# Altium integrated library TI_Logic_Flip-Flop,Latch,Register.IntLib: 2598 symbols (part 95 of 122)
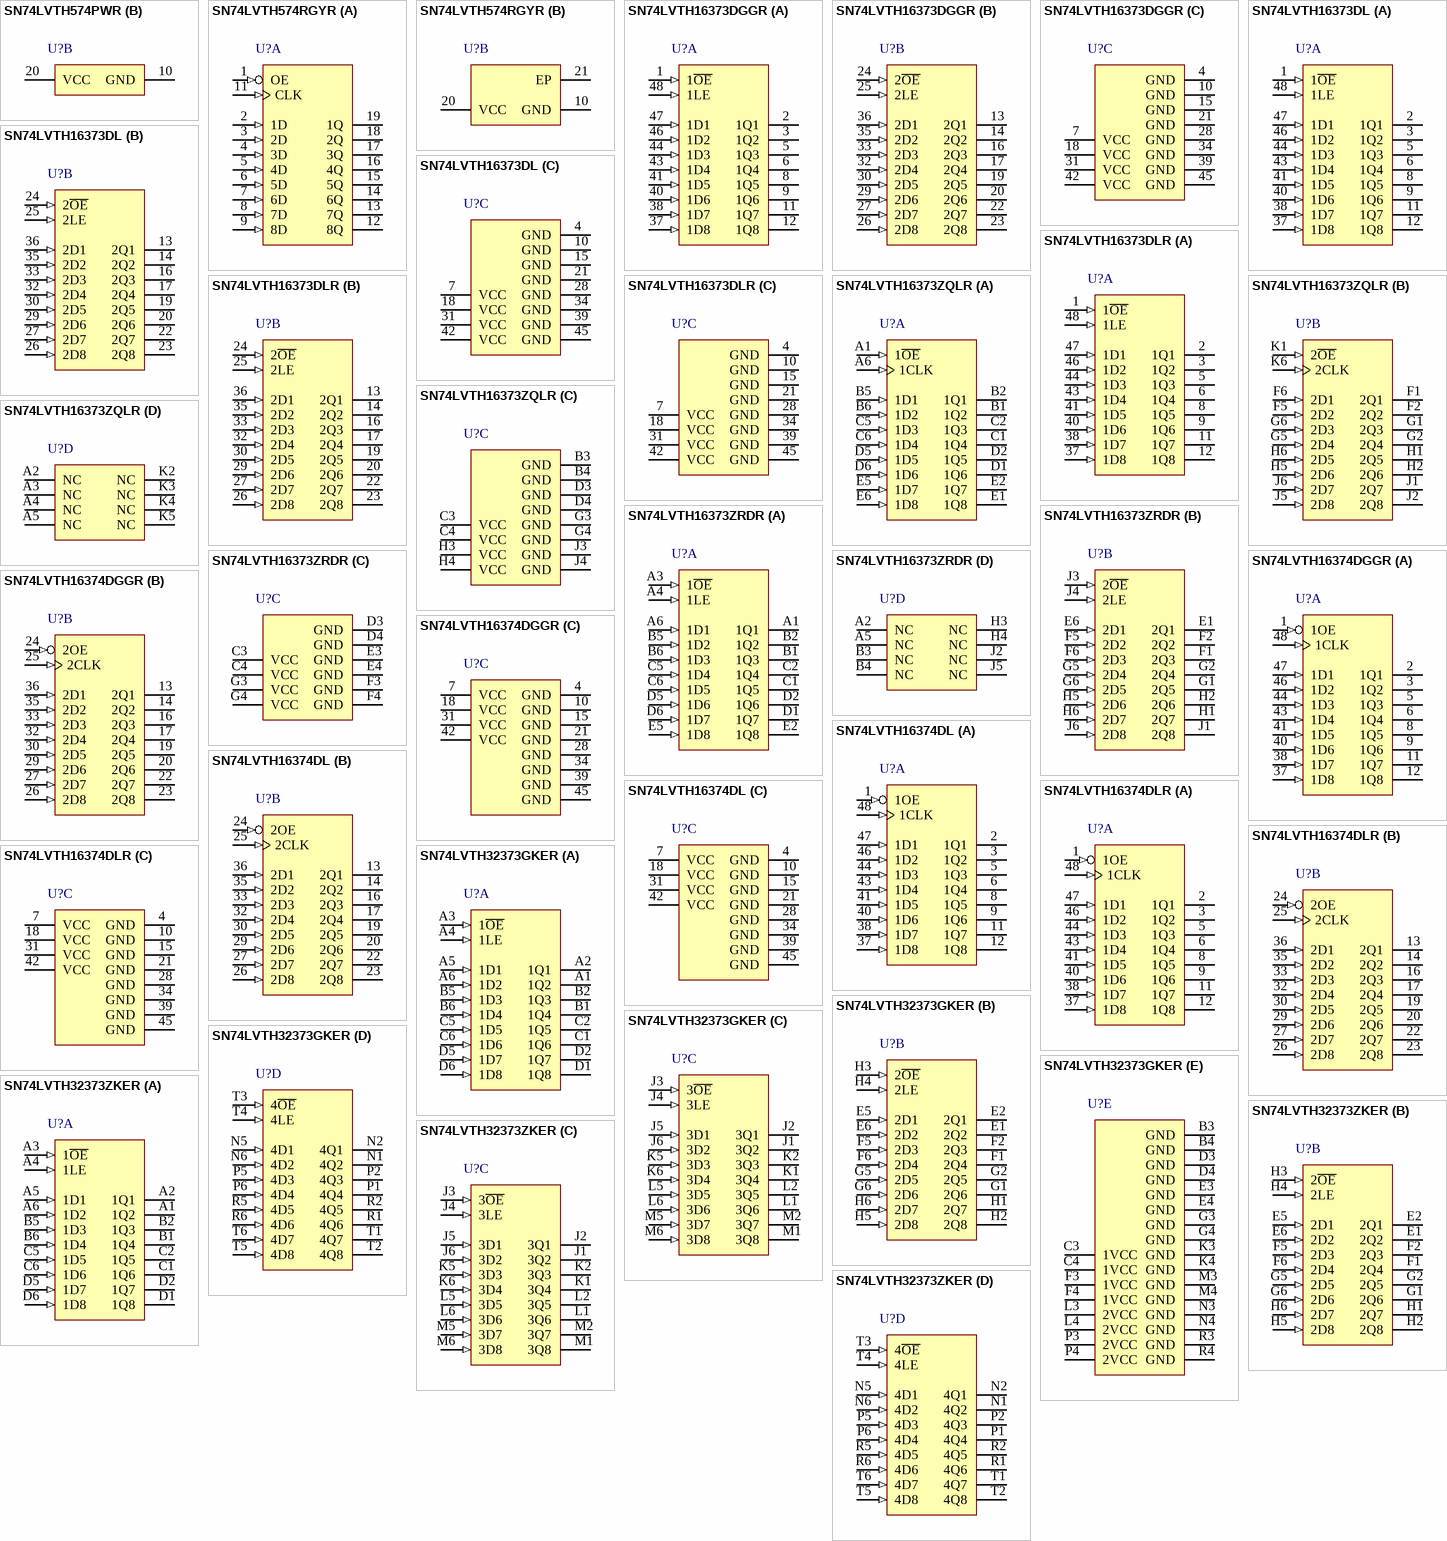
[diagram p233: symbols SN74LVTH574PWR to SN74LVTH32373ZKER]

## SN74LVTH32373GKER
designator U?
3.3-V ABT 32-Bit Transparent D-Type Latch With 3-State Outputs, GKE0096A, LARGE T&R; Generic Part Number: SN74LVTH32373; Manufacturer: Texas Instruments; PartNumber: SN74LVTH32373GKER; VCC(Min)(V): 2.7; VCC(Max)(V): 3.6; Output Type: TTL; Logic: True; Static Current: 10 mA; ICC @ Nom Voltage(Max)(mA): 10; Bits(#): 32; F @ Nom Voltage(Max)(Mhz): 160; Rating: Catalog; Technology Family: LVT; Voltage(Nom)(V): 3.3; Schmitt Trigger: No; Output Drive (IOL/IOH)(Max)(mA): 64/-32; Output Logic: Non-inverted; 3-State Output: Yes; tpd @ Nom Voltage(Max)(ns): 3.8; DatasheetVersion: SCBS751B; PackageReference: GKE0096A; Supplier 1: Digi-Key; Supplier Part Number 1: 296-8717-2-ND; Supplier 2: Digi-Key; Supplier Part Number 2: 296-8717-1-ND; Supplier 3: Newark; Supplier Part Number 3: 76C4491; Supplier 4: Mouser; Supplier Part Number 4: 595-SNLVTH32373GKER; Input Type: TTL; Operating Temperature Range(C): -40 to 85; Code_JEDEC: MO-205; ComponentLink1Description: Manufacturer URL; ComponentLink1URL: http://www.ti.com/; ComponentLink2Description: Datasheet; ComponentLink2URL: http://www.ti.com/lit/ds/symlink/sn74lvth32373.pdf; ComponentLink3Description: Package Specification; ComponentLink3URL: http://www.ti.com/lit/ml/mpbg095d/mpbg095d.pdf
footprint GKE0096A (BGA, 96-Balls, Body 13.5x5.5mm, Pitch 0.8mm)
part A pins: A1 1Q2 (hiz), A2 1Q1 (hiz), A3 1~{OE} (in), A4 1LE (in), A5 1D1 (in), A6 1D2 (in), B1 1Q4 (hiz), B2 1Q3 (hiz), B5 1D3 (in), B6 1D4 (in), C1 1Q6 (hiz), C2 1Q5 (hiz), C5 1D5 (in), C6 1D6 (in), D1 1Q8 (hiz), D2 1Q7 (hiz), D5 1D7 (in), D6 1D8 (in)
part B pins: E1 2Q2 (hiz), E2 2Q1 (hiz), E5 2D1 (in), E6 2D2 (in), F1 2Q4 (hiz), F2 2Q3 (hiz), F5 2D3 (in), F6 2D4 (in), G1 2Q6 (hiz), G2 2Q5 (hiz), G5 2D5 (in), G6 2D6 (in), H1 2Q7 (hiz), H2 2Q8 (hiz), H3 2~{OE} (in), H4 2LE (in), H5 2D8 (in), H6 2D7 (in)
part C pins: J1 3Q2 (hiz), J2 3Q1 (hiz), J3 3~{OE} (in), J4 3LE (in), J5 3D1 (in), J6 3D2 (in), K1 3Q4 (hiz), K2 3Q3 (hiz), K5 3D3 (in), K6 3D4 (in), L1 3Q6 (hiz), L2 3Q5 (hiz), L5 3D5 (in), L6 3D6 (in), M1 3Q8 (hiz), M2 3Q7 (hiz), M5 3D7 (in), M6 3D8 (in)
part D pins: N1 4Q2 (hiz), N2 4Q1 (hiz), N5 4D1 (in), N6 4D2 (in), P1 4Q4 (hiz), P2 4Q3 (hiz), P5 4D3 (in), P6 4D4 (in), R1 4Q6 (hiz), R2 4Q5 (hiz), R5 4D5 (in), R6 4D6 (in), T1 4Q7 (hiz), T2 4Q8 (hiz), T3 4~{OE} (in), T4 4LE (in), T5 4D8 (in), T6 4D7 (in)
part E pins: B3 GND (power), B4 GND (power), C3 1VCC (power), C4 1VCC (power), D3 GND (power), D4 GND (power), E3 GND (power), E4 GND (power), F3 1VCC (power), F4 1VCC (power), G3 GND (power), G4 GND (power), K3 GND (power), K4 GND (power), L3 2VCC (power), L4 2VCC (power), M3 GND (power), M4 GND (power), N3 GND (power), N4 GND (power), P3 2VCC (power), P4 2VCC (power), R3 GND (power), R4 GND (power)

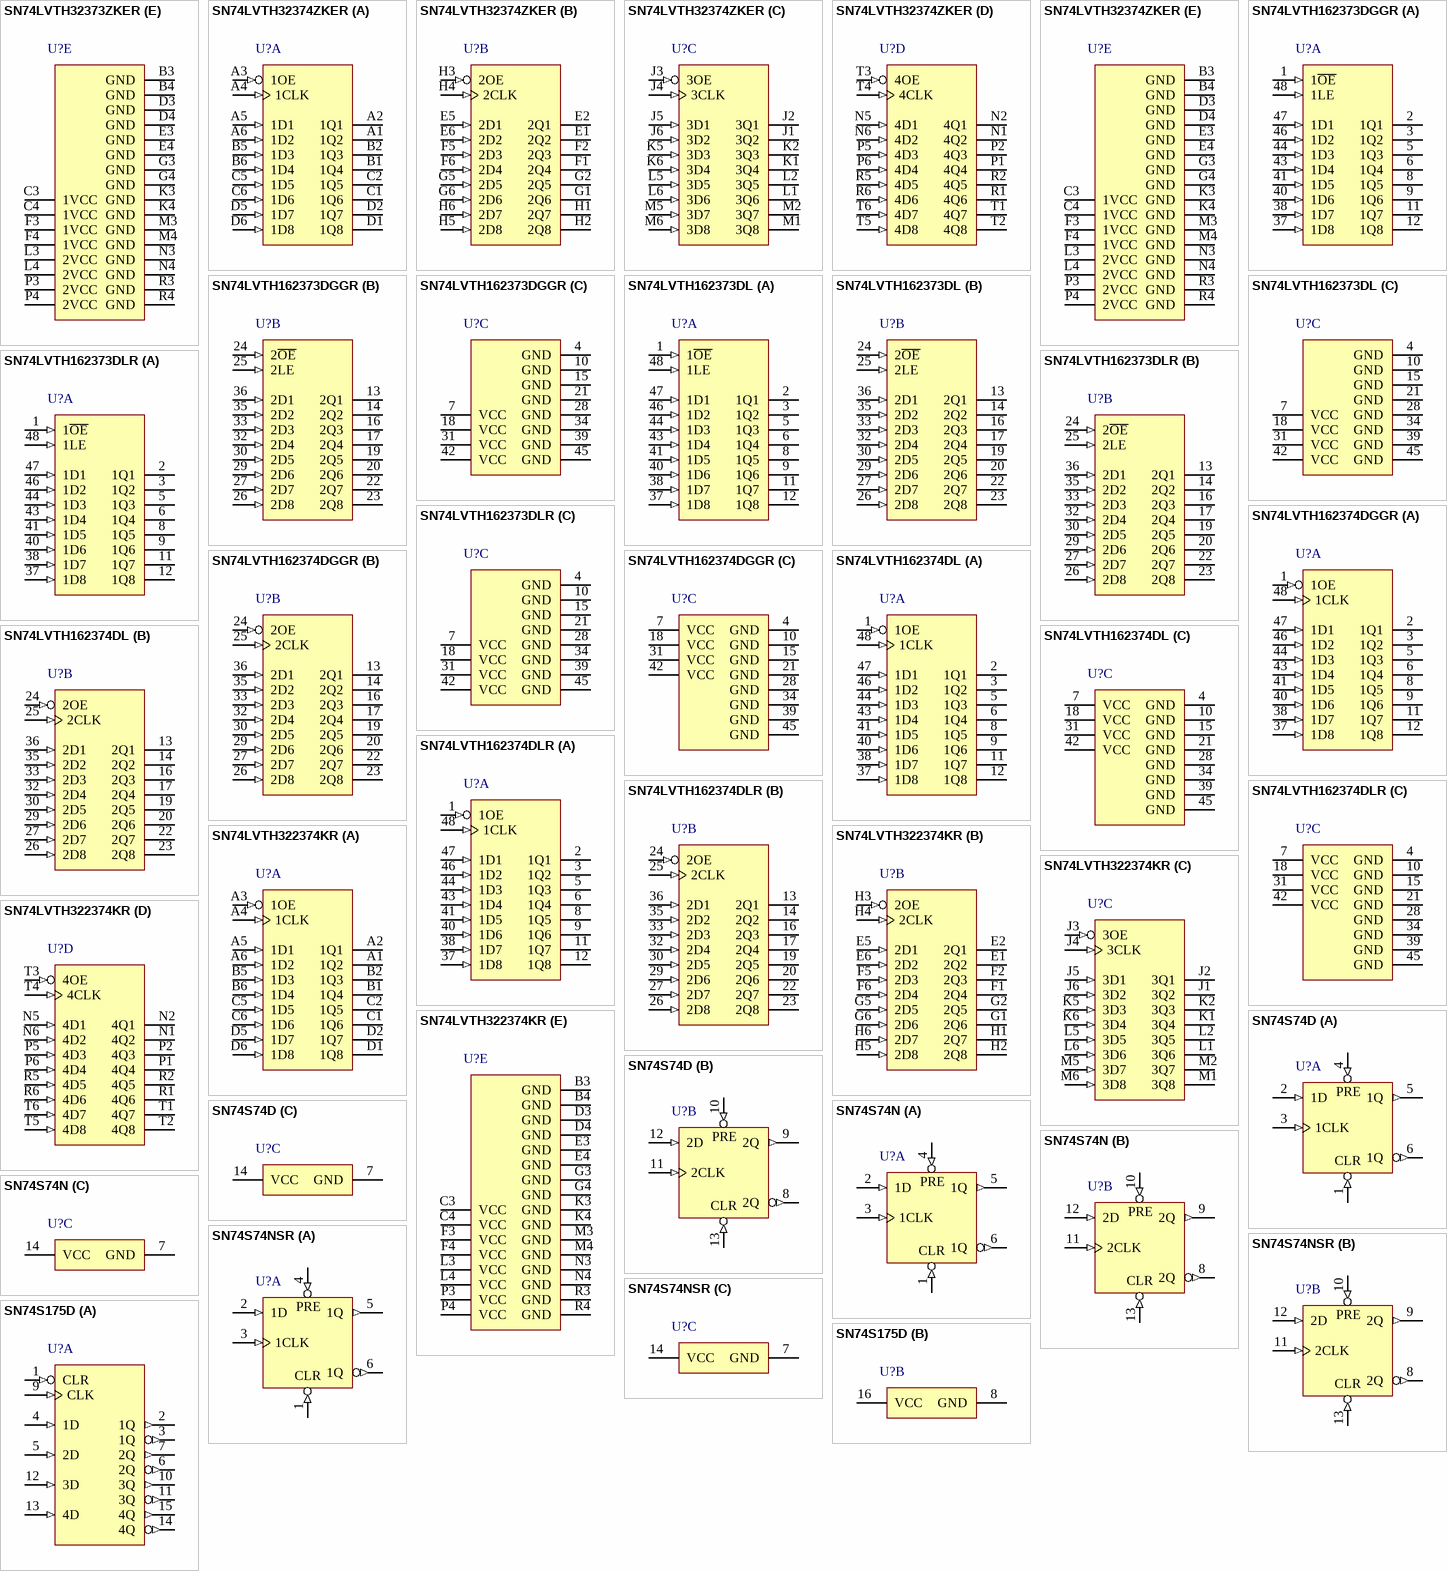
[diagram p113: symbols SN74LVTH32373ZKER to SN74S175D]

## SN74LVTH32373ZKER
designator U?
3.3-V ABT 32-Bit Transparent D-Type Latch With 3-State Outputs, ZKE0096A, LARGE T&R; Generic Part Number: SN74LVTH32373; Manufacturer: Texas Instruments; PartNumber: SN74LVTH32373ZKER; VCC(Min)(V): 2.7; VCC(Max)(V): 3.6; Output Type: TTL; Logic: True; Static Current: 10 mA; ICC @ Nom Voltage(Max)(mA): 10; Bits(#): 32; F @ Nom Voltage(Max)(Mhz): 160; Rating: Catalog; Technology Family: LVT; Voltage(Nom)(V): 3.3; Schmitt Trigger: No; Output Drive (IOL/IOH)(Max)(mA): 64/-32; Output Logic: Non-inverted; 3-State Output: Yes; tpd @ Nom Voltage(Max)(ns): 3.8; DatasheetVersion: SCBS751B; PackageReference: ZKE0096A; Supplier 1: Digi-Key; Supplier Part Number 1: 296-25442-2-ND; Supplier 2: Digi-Key; Supplier Part Number 2: 296-25442-1-ND; Supplier 3: Digi-Key; Supplier Part Number 3: 296-25442-6-ND; Supplier 4: Newark; Supplier Part Number 4: 87H2705; Supplier 5: Mouser; Supplier Part Number 5: 595-74LVTH32373ZKER; Input Type: TTL; Operating Temperature Range(C): -40 to 85; Code_JEDEC: MO-205; ComponentLink1Description: Manufacturer URL; ComponentLink1URL: http://www.ti.com/; ComponentLink2Description: Datasheet; ComponentLink2URL: http://www.ti.com/lit/ds/symlink/sn74lvth32373.pdf; ComponentLink3Description: Package Specification; ComponentLink3URL: http://www.ti.com/lit/ml/mpbg298b/mpbg298b.pdf
footprint ZKE0096A (BGA, 96-Balls, Body 13.5x5.5mm, Pitch 0.8mm)
part A pins: A1 1Q2 (hiz), A2 1Q1 (hiz), A3 1~{OE} (in), A4 1LE (in), A5 1D1 (in), A6 1D2 (in), B1 1Q4 (hiz), B2 1Q3 (hiz), B5 1D3 (in), B6 1D4 (in), C1 1Q6 (hiz), C2 1Q5 (hiz), C5 1D5 (in), C6 1D6 (in), D1 1Q8 (hiz), D2 1Q7 (hiz), D5 1D7 (in), D6 1D8 (in)
part B pins: E1 2Q2 (hiz), E2 2Q1 (hiz), E5 2D1 (in), E6 2D2 (in), F1 2Q4 (hiz), F2 2Q3 (hiz), F5 2D3 (in), F6 2D4 (in), G1 2Q6 (hiz), G2 2Q5 (hiz), G5 2D5 (in), G6 2D6 (in), H1 2Q7 (hiz), H2 2Q8 (hiz), H3 2~{OE} (in), H4 2LE (in), H5 2D8 (in), H6 2D7 (in)
part C pins: J1 3Q2 (hiz), J2 3Q1 (hiz), J3 3~{OE} (in), J4 3LE (in), J5 3D1 (in), J6 3D2 (in), K1 3Q4 (hiz), K2 3Q3 (hiz), K5 3D3 (in), K6 3D4 (in), L1 3Q6 (hiz), L2 3Q5 (hiz), L5 3D5 (in), L6 3D6 (in), M1 3Q8 (hiz), M2 3Q7 (hiz), M5 3D7 (in), M6 3D8 (in)
part D pins: N1 4Q2 (hiz), N2 4Q1 (hiz), N5 4D1 (in), N6 4D2 (in), P1 4Q4 (hiz), P2 4Q3 (hiz), P5 4D3 (in), P6 4D4 (in), R1 4Q6 (hiz), R2 4Q5 (hiz), R5 4D5 (in), R6 4D6 (in), T1 4Q7 (hiz), T2 4Q8 (hiz), T3 4~{OE} (in), T4 4LE (in), T5 4D8 (in), T6 4D7 (in)
part E pins: B3 GND (power), B4 GND (power), C3 1VCC (power), C4 1VCC (power), D3 GND (power), D4 GND (power), E3 GND (power), E4 GND (power), F3 1VCC (power), F4 1VCC (power), G3 GND (power), G4 GND (power), K3 GND (power), K4 GND (power), L3 2VCC (power), L4 2VCC (power), M3 GND (power), M4 GND (power), N3 GND (power), N4 GND (power), P3 2VCC (power), P4 2VCC (power), R3 GND (power), R4 GND (power)

## SN74LVTH32374ZKER
designator U?
3.3-V ABT 32-Bit Edge-Triggered D-Type Flip-Flop With 3-State Outputs, ZKE0096A, LARGE T&R; Generic Part Number: SN74LVTH32374; Manufacturer: Texas Instruments; PartNumber: SN74LVTH32374ZKER; VCC(Min)(V): 2.7; VCC(Max)(V): 3.6; Output Type: TTL; ICC @ Nom Voltage(Max)(mA): 10; Bits(#): 32; F @ Nom Voltage(Max)(Mhz): 160; Rating: Catalog; Technology Family: LVT; Voltage(Nom)(V): 3.3; Schmitt Trigger: No; Output Drive (IOL/IOH)(Max)(mA): 64/-32; Output Logic: Non-inverted; 3-State Output: Yes; tpd @ Nom Voltage(Max)(ns): 4.5; DatasheetVersion: SCBS752D; PackageReference: ZKE0096A; Supplier 1: Digi-Key; Supplier Part Number 1: 296-23292-2-ND; Supplier 2: Digi-Key; Supplier Part Number 2: 296-23292-1-ND; Supplier 3: Digi-Key; Supplier Part Number 3: 296-23292-6-ND; Supplier 4: Mouser; Supplier Part Number 4: 595-SN74LVTH32374ZKE; Input Type: TTL; Operating Temperature Range(C): -40 to 85; Code_JEDEC: MO-205; ComponentLink1Description: Manufacturer URL; ComponentLink1URL: http://www.ti.com/; ComponentLink2Description: Datasheet; ComponentLink2URL: http://www.ti.com/lit/ds/symlink/sn74lvth32374.pdf; ComponentLink3Description: Package Specification; ComponentLink3URL: http://www.ti.com/lit/ml/mpbg298b/mpbg298b.pdf
footprint ZKE0096A (BGA, 96-Balls, Body 13.5x5.5mm, Pitch 0.8mm)
part A pins: A1 1Q2 (hiz), A2 1Q1 (hiz), A3 1OE (in), A4 1CLK (in), A5 1D1 (in), A6 1D2 (in), B1 1Q4 (hiz), B2 1Q3 (hiz), B5 1D3 (in), B6 1D4 (in), C1 1Q6 (hiz), C2 1Q5 (hiz), C5 1D5 (in), C6 1D6 (in), D1 1Q8 (hiz), D2 1Q7 (hiz), D5 1D7 (in), D6 1D8 (in)
part B pins: E1 2Q2 (hiz), E2 2Q1 (hiz), E5 2D1 (in), E6 2D2 (in), F1 2Q4 (hiz), F2 2Q3 (hiz), F5 2D3 (in), F6 2D4 (in), G1 2Q6 (hiz), G2 2Q5 (hiz), G5 2D5 (in), G6 2D6 (in), H1 2Q7 (hiz), H2 2Q8 (hiz), H3 2OE (in), H4 2CLK (in), H5 2D8 (in), H6 2D7 (in)
part C pins: J1 3Q2 (hiz), J2 3Q1 (hiz), J3 3OE (in), J4 3CLK (in), J5 3D1 (in), J6 3D2 (in), K1 3Q4 (hiz), K2 3Q3 (hiz), K5 3D3 (in), K6 3D4 (in), L1 3Q6 (hiz), L2 3Q5 (hiz), L5 3D5 (in), L6 3D6 (in), M1 3Q8 (hiz), M2 3Q7 (hiz), M5 3D7 (in), M6 3D8 (in)
part D pins: N1 4Q2 (hiz), N2 4Q1 (hiz), N5 4D1 (in), N6 4D2 (in), P1 4Q4 (hiz), P2 4Q3 (hiz), P5 4D3 (in), P6 4D4 (in), R1 4Q6 (hiz), R2 4Q5 (hiz), R5 4D5 (in), R6 4D6 (in), T1 4Q7 (hiz), T2 4Q8 (hiz), T3 4OE (in), T4 4CLK (in), T5 4D8 (in), T6 4D7 (in)
part E pins: B3 GND (power), B4 GND (power), C3 1VCC (power), C4 1VCC (power), D3 GND (power), D4 GND (power), E3 GND (power), E4 GND (power), F3 1VCC (power), F4 1VCC (power), G3 GND (power), G4 GND (power), K3 GND (power), K4 GND (power), L3 2VCC (power), L4 2VCC (power), M3 GND (power), M4 GND (power), N3 GND (power), N4 GND (power), P3 2VCC (power), P4 2VCC (power), R3 GND (power), R4 GND (power)

## SN74LVTH162373DGGR
designator U?
3.3-V ABT 16-Bit Transparent D-Type Latches With 3-State Outputs, DGG0048A, LARGE T&R; Generic Part Number: SN74LVTH162373; Manufacturer: Texas Instruments; PartNumber: SN74LVTH162373DGGR; VCC(Min)(V): 2.7; VCC(Max)(V): 3.6; Output Type: TTL; ICC @ Nom Voltage(Max)(mA): 5; Bits(#): 16; F @ Nom Voltage(Max)(Mhz): 160; Rating: Catalog; Technology Family: LVT; Voltage(Nom)(V): 3.3; Schmitt Trigger: No; Output Drive (IOL/IOH)(Max)(mA): 12/-12; Output Logic: Non-inverted; 3-State Output: Yes; tpd @ Nom Voltage(Max)(ns): 4.6; DatasheetVersion: SCBS261M; PackageReference: DGG0048A; Supplier 1: Digi-Key; Supplier Part Number 1: 296-8671-2-ND; Supplier 2: Digi-Key; Supplier Part Number 2: 296-8671-1-ND; Supplier 3: Digi-Key; Supplier Part Number 3: 296-8671-6-ND; Supplier 4: Farnell; Supplier Part Number 4: 2499892; Supplier 5: Newark; Supplier Part Number 5: 68Y8046; Supplier 6: Newark; Supplier Part Number 6: 76C4395; Supplier 7: Mouser; Supplier Part Number 7: 595-SNLVTH162373DGGR; Input Type: TTL; Operating Temperature Range(C): -40 to 85; Code_JEDEC: MO-153; ComponentLink1Description: Manufacturer URL; ComponentLink1URL: http://www.ti.com/; ComponentLink2Description: Datasheet; ComponentLink2URL: http://www.ti.com/lit/ds/symlink/sn74lvth162373.pdf; ComponentLink3Description: Package Specification; ComponentLink3URL: http://www.ti.com/lit/ml/mtss003d/mtss003d.pdf
footprint DGG0048A_N (TSSOP, 48-Leads, Body 12.6x6.2mm, Pitch 0.5mm, IPC Medium Density)
footprint DGG0048A_M (TSSOP, 48-Leads, Body 12.6x6.2mm, Pitch 0.5mm, IPC Low Density)
footprint DGG0048A_L (TSSOP, 48-Leads, Body 12.6x6.2mm, Pitch 0.5mm, IPC High Density)
part A pins: 1 1~{OE} (in) "Output Enable 1", 2 1Q1 (hiz) "1Q1 Output", 3 1Q2 (hiz) "1Q2 Output", 5 1Q3 (hiz) "1Q3 Output", 6 1Q4 (hiz) "1Q4 Output", 8 1Q5 (hiz) "1Q5 Output", 9 1Q6 (hiz) "1Q6 Output", 11 1Q7 (hiz) "1Q7 Output", 12 1Q8 (hiz) "1Q8 Output", 37 1D8 (in) "1D8 Input", 38 1D7 (in) "1D7 Input", 40 1D6 (in) "1D6 Input", 41 1D5 (in) "1D5 Input", 43 1D4 (in) "1D4 Input", 44 1D3 (in) "1D3 Input", 46 1D2 (in) "1D2 Input", 47 1D1 (in) "1D1 Input", 48 1LE (in) "Latch Enable 1"
part B pins: 13 2Q1 (hiz) "2Q1 Output", 14 2Q2 (hiz) "2Q2 Output", 16 2Q3 (hiz) "2Q3 Output", 17 2Q4 (hiz) "2Q4 Output", 19 2Q5 (hiz) "Output", 20 2Q6 (hiz) "2Q6 Output", 22 2Q7 (hiz) "2Q7 Output", 23 2Q8 (hiz) "2Q8 Output", 24 2~{OE} (in) "Output Enable 2", 25 2LE (in) "2LE Input", 26 2D8 (in) "2D8 Input", 27 2D7 (in) "2D7 Input", 29 2D6 (in) "2D6 Input", 30 2D5 (in) "2D5 Input", 32 2D4 (in) "2D4 Input", 33 2D3 (in) "2D3 Input", 35 2D2 (in) "2D2 Input", 36 2D1 (in) "2D1 Input"
part C pins: 4 GND (power) "Ground Pin", 7 VCC (power) "Power Pin", 10 GND (power) "Ground Pin", 15 GND (power) "Ground Pin", 18 VCC (power) "Power Pin", 21 GND (power) "Ground Pin", 28 GND (power) "Ground Pin", 31 VCC (power) "Power Pin", 34 GND (power) "Ground Pin", 39 GND (power) "Ground Pin", 42 VCC (power) "Power Pin", 45 GND (power) "Ground Pin"

## SN74LVTH162373DL
designator U?
3.3-V ABT 16-Bit Transparent D-Type Latches With 3-State Outputs, DL0048A, TUBE; Generic Part Number: SN74LVTH162373; Manufacturer: Texas Instruments; PartNumber: SN74LVTH162373DL; VCC(Min)(V): 2.7; VCC(Max)(V): 3.6; Output Type: TTL; ICC @ Nom Voltage(Max)(mA): 5; Bits(#): 16; F @ Nom Voltage(Max)(Mhz): 160; Rating: Catalog; Technology Family: LVT; Voltage(Nom)(V): 3.3; Schmitt Trigger: No; Output Drive (IOL/IOH)(Max)(mA): 12/-12; Output Logic: Non-inverted; 3-State Output: Yes; tpd @ Nom Voltage(Max)(ns): 4.6; DatasheetVersion: SCBS261M; PackageReference: DL0048A; Supplier 1: Digi-Key; Supplier Part Number 1: 296-12918-5-ND; Supplier 2: Newark; Supplier Part Number 2: 76C4396; Supplier 3: Mouser; Supplier Part Number 3: 595-SN74LVTH162373DL; Input Type: TTL; Operating Temperature Range(C): -40 to 85; Code_JEDEC: MO-118; ComponentLink1Description: Manufacturer URL; ComponentLink1URL: http://www.ti.com/; ComponentLink2Description: Datasheet; ComponentLink2URL: http://www.ti.com/lit/ds/symlink/sn74lvth162373.pdf; ComponentLink3Description: Package Specification; ComponentLink3URL: http://www.ti.com/lit/ml/mpds490/mpds490.pdf
footprint DL0048A_N (SOP, 48-Leads, Body 7.6x16mm, Pitch 0.635mm, IPC Medium Density)
footprint DL0048A_M (SOP, 48-Leads, Body 7.6x16mm, Pitch 0.635mm, IPC Low Density)
footprint DL0048A_L (SOP, 48-Leads, Body 7.6x16mm, Pitch 0.635mm, IPC High Density)
part A pins: 1 1~{OE} (in) "Output Enable 1", 2 1Q1 (hiz) "1Q1 Output", 3 1Q2 (hiz) "1Q2 Output", 5 1Q3 (hiz) "1Q3 Output", 6 1Q4 (hiz) "1Q4 Output", 8 1Q5 (hiz) "1Q5 Output", 9 1Q6 (hiz) "1Q6 Output", 11 1Q7 (hiz) "1Q7 Output", 12 1Q8 (hiz) "1Q8 Output", 37 1D8 (in) "1D8 Input", 38 1D7 (in) "1D7 Input", 40 1D6 (in) "1D6 Input", 41 1D5 (in) "1D5 Input", 43 1D4 (in) "1D4 Input", 44 1D3 (in) "1D3 Input", 46 1D2 (in) "1D2 Input", 47 1D1 (in) "1D1 Input", 48 1LE (in) "Latch Enable 1"
part B pins: 13 2Q1 (hiz) "2Q1 Output", 14 2Q2 (hiz) "2Q2 Output", 16 2Q3 (hiz) "2Q3 Output", 17 2Q4 (hiz) "2Q4 Output", 19 2Q5 (hiz) "Output", 20 2Q6 (hiz) "2Q6 Output", 22 2Q7 (hiz) "2Q7 Output", 23 2Q8 (hiz) "2Q8 Output", 24 2~{OE} (in) "Output Enable 2", 25 2LE (in) "2LE Input", 26 2D8 (in) "2D8 Input", 27 2D7 (in) "2D7 Input", 29 2D6 (in) "2D6 Input", 30 2D5 (in) "2D5 Input", 32 2D4 (in) "2D4 Input", 33 2D3 (in) "2D3 Input", 35 2D2 (in) "2D2 Input", 36 2D1 (in) "2D1 Input"
part C pins: 4 GND (power) "Ground Pin", 7 VCC (power) "Power Pin", 10 GND (power) "Ground Pin", 15 GND (power) "Ground Pin", 18 VCC (power) "Power Pin", 21 GND (power) "Ground Pin", 28 GND (power) "Ground Pin", 31 VCC (power) "Power Pin", 34 GND (power) "Ground Pin", 39 GND (power) "Ground Pin", 42 VCC (power) "Power Pin", 45 GND (power) "Ground Pin"

## SN74LVTH162373DLR
designator U?
3.3-V ABT 16-Bit Transparent D-Type Latches With 3-State Outputs, DL0048A, LARGE T&R; Generic Part Number: SN74LVTH162373; Manufacturer: Texas Instruments; PartNumber: SN74LVTH162373DLR; VCC(Min)(V): 2.7; VCC(Max)(V): 3.6; Output Type: TTL; ICC @ Nom Voltage(Max)(mA): 5; Bits(#): 16; F @ Nom Voltage(Max)(Mhz): 160; Rating: Catalog; Technology Family: LVT; Voltage(Nom)(V): 3.3; Schmitt Trigger: No; Output Drive (IOL/IOH)(Max)(mA): 12/-12; Output Logic: Non-inverted; 3-State Output: Yes; tpd @ Nom Voltage(Max)(ns): 4.6; DatasheetVersion: SCBS261M; PackageReference: DL0048A; Supplier 1: Digi-Key; Supplier Part Number 1: 296-38809-2-ND; Supplier 2: Digi-Key; Supplier Part Number 2: 296-38809-1-ND; Supplier 3: Digi-Key; Supplier Part Number 3: 296-38809-6-ND; Supplier 4: Mouser; Supplier Part Number 4: 595-74LVTH162373DLR; Input Type: TTL; Operating Temperature Range(C): -40 to 85; Code_JEDEC: MO-118; ComponentLink1Description: Manufacturer URL; ComponentLink1URL: http://www.ti.com/; ComponentLink2Description: Datasheet; ComponentLink2URL: http://www.ti.com/lit/ds/symlink/sn74lvth162373.pdf; ComponentLink3Description: Package Specification; ComponentLink3URL: http://www.ti.com/lit/ml/mpds490/mpds490.pdf
footprint DL0048A_N (SOP, 48-Leads, Body 7.6x16mm, Pitch 0.635mm, IPC Medium Density)
footprint DL0048A_M (SOP, 48-Leads, Body 7.6x16mm, Pitch 0.635mm, IPC Low Density)
footprint DL0048A_L (SOP, 48-Leads, Body 7.6x16mm, Pitch 0.635mm, IPC High Density)
part A pins: 1 1~{OE} (in) "Output Enable 1", 2 1Q1 (hiz) "1Q1 Output", 3 1Q2 (hiz) "1Q2 Output", 5 1Q3 (hiz) "1Q3 Output", 6 1Q4 (hiz) "1Q4 Output", 8 1Q5 (hiz) "1Q5 Output", 9 1Q6 (hiz) "1Q6 Output", 11 1Q7 (hiz) "1Q7 Output", 12 1Q8 (hiz) "1Q8 Output", 37 1D8 (in) "1D8 Input", 38 1D7 (in) "1D7 Input", 40 1D6 (in) "1D6 Input", 41 1D5 (in) "1D5 Input", 43 1D4 (in) "1D4 Input", 44 1D3 (in) "1D3 Input", 46 1D2 (in) "1D2 Input", 47 1D1 (in) "1D1 Input", 48 1LE (in) "Latch Enable 1"
part B pins: 13 2Q1 (hiz) "2Q1 Output", 14 2Q2 (hiz) "2Q2 Output", 16 2Q3 (hiz) "2Q3 Output", 17 2Q4 (hiz) "2Q4 Output", 19 2Q5 (hiz) "Output", 20 2Q6 (hiz) "2Q6 Output", 22 2Q7 (hiz) "2Q7 Output", 23 2Q8 (hiz) "2Q8 Output", 24 2~{OE} (in) "Output Enable 2", 25 2LE (in) "2LE Input", 26 2D8 (in) "2D8 Input", 27 2D7 (in) "2D7 Input", 29 2D6 (in) "2D6 Input", 30 2D5 (in) "2D5 Input", 32 2D4 (in) "2D4 Input", 33 2D3 (in) "2D3 Input", 35 2D2 (in) "2D2 Input", 36 2D1 (in) "2D1 Input"
part C pins: 4 GND (power) "Ground Pin", 7 VCC (power) "Power Pin", 10 GND (power) "Ground Pin", 15 GND (power) "Ground Pin", 18 VCC (power) "Power Pin", 21 GND (power) "Ground Pin", 28 GND (power) "Ground Pin", 31 VCC (power) "Power Pin", 34 GND (power) "Ground Pin", 39 GND (power) "Ground Pin", 42 VCC (power) "Power Pin", 45 GND (power) "Ground Pin"

## SN74LVTH162374DGGR
designator U?
3.3-V ABT 16-Bit Edge-Triggered D-Type Flip-Flops With 3-State Outputs, DGG0048A, LARGE T&R; Generic Part Number: SN74LVTH162374; Manufacturer: Texas Instruments; PartNumber: SN74LVTH162374DGGR; VCC(Min)(V): 2.7; VCC(Max)(V): 3.6; Output Type: TTL; ICC @ Nom Voltage(Max)(mA): 5; Bits(#): 16; F @ Nom Voltage(Max)(Mhz): 160; Rating: Catalog; Technology Family: LVT; Voltage(Nom)(V): 3.3; Schmitt Trigger: No; Output Drive (IOL/IOH)(Max)(mA): 12/-12; Output Logic: Non-inverted; 3-State Output: Yes; tpd @ Nom Voltage(Max)(ns): 5.3; DatasheetVersion: SCBS262M; PackageReference: DGG0048A; Supplier 1: Digi-Key; Supplier Part Number 1: 296-8672-2-ND; Supplier 2: Digi-Key; Supplier Part Number 2: 296-8672-1-ND; Supplier 3: Digi-Key; Supplier Part Number 3: 296-8672-6-ND; Supplier 4: Farnell; Supplier Part Number 4: 2437305; Supplier 5: Newark; Supplier Part Number 5: 76C4399; Supplier 6: Mouser; Supplier Part Number 6: 595-SNLVTH162374DGGR; Input Type: TTL; Operating Temperature Range(C): -40 to 85; Code_JEDEC: MO-153; ComponentLink1Description: Manufacturer URL; ComponentLink1URL: http://www.ti.com/; ComponentLink2Description: Datasheet; ComponentLink2URL: http://www.ti.com/lit/ds/symlink/sn74lvth162374.pdf; ComponentLink3Description: Package Specification; ComponentLink3URL: http://www.ti.com/lit/ml/mtss003d/mtss003d.pdf
footprint DGG0048A_N (TSSOP, 48-Leads, Body 12.6x6.2mm, Pitch 0.5mm, IPC Medium Density)
footprint DGG0048A_M (TSSOP, 48-Leads, Body 12.6x6.2mm, Pitch 0.5mm, IPC Low Density)
footprint DGG0048A_L (TSSOP, 48-Leads, Body 12.6x6.2mm, Pitch 0.5mm, IPC High Density)
part A pins: 1 1OE (in), 2 1Q1 (hiz), 3 1Q2 (hiz), 5 1Q3 (hiz), 6 1Q4 (hiz), 8 1Q5 (hiz), 9 1Q6 (hiz), 11 1Q7 (hiz), 12 1Q8 (hiz), 37 1D8 (in), 38 1D7 (in), 40 1D6 (in), 41 1D5 (in), 43 1D4 (in), 44 1D3 (in), 46 1D2 (in), 47 1D1 (in), 48 1CLK (in)
part B pins: 13 2Q1 (hiz), 14 2Q2 (hiz), 16 2Q3 (hiz), 17 2Q4 (hiz), 19 2Q5 (hiz), 20 2Q6 (hiz), 22 2Q7 (hiz), 23 2Q8 (hiz), 24 2OE (in), 25 2CLK (in), 26 2D8 (in), 27 2D7 (in), 29 2D6 (in), 30 2D5 (in), 32 2D4 (in), 33 2D3 (in), 35 2D2 (in), 36 2D1 (in)
part C pins: 4 GND (power), 7 VCC (power), 10 GND (power), 15 GND (power), 18 VCC (power), 21 GND (power), 28 GND (power), 31 VCC (power), 34 GND (power), 39 GND (power), 42 VCC (power), 45 GND (power)

## SN74LVTH162374DL
designator U?
3.3-V ABT 16-Bit Edge-Triggered D-Type Flip-Flops With 3-State Outputs, DL0048A, TUBE; Generic Part Number: SN74LVTH162374; Manufacturer: Texas Instruments; PartNumber: SN74LVTH162374DL; VCC(Min)(V): 2.7; VCC(Max)(V): 3.6; Output Type: TTL; ICC @ Nom Voltage(Max)(mA): 5; Bits(#): 16; F @ Nom Voltage(Max)(Mhz): 160; Rating: Catalog; Technology Family: LVT; Voltage(Nom)(V): 3.3; Schmitt Trigger: No; Output Drive (IOL/IOH)(Max)(mA): 12/-12; Output Logic: Non-inverted; 3-State Output: Yes; tpd @ Nom Voltage(Max)(ns): 5.3; DatasheetVersion: SCBS262M; PackageReference: DL0048A; Supplier 1: Digi-Key; Supplier Part Number 1: 296-8673-5-ND; Supplier 2: Farnell; Supplier Part Number 2: 1752981; Supplier 3: Newark; Supplier Part Number 3: 50R6658; Supplier 4: Mouser; Supplier Part Number 4: 595-SN74LVTH162374DL; Input Type: TTL; Operating Temperature Range(C): -40 to 85; Code_JEDEC: MO-118; ComponentLink1Description: Manufacturer URL; ComponentLink1URL: http://www.ti.com/; ComponentLink2Description: Datasheet; ComponentLink2URL: http://www.ti.com/lit/ds/symlink/sn74lvth162374.pdf; ComponentLink3Description: Package Specification; ComponentLink3URL: http://www.ti.com/lit/ml/mpds490/mpds490.pdf
footprint DL0048A_N (SOP, 48-Leads, Body 7.6x16mm, Pitch 0.635mm, IPC Medium Density)
footprint DL0048A_M (SOP, 48-Leads, Body 7.6x16mm, Pitch 0.635mm, IPC Low Density)
footprint DL0048A_L (SOP, 48-Leads, Body 7.6x16mm, Pitch 0.635mm, IPC High Density)
part A pins: 1 1OE (in), 2 1Q1 (hiz), 3 1Q2 (hiz), 5 1Q3 (hiz), 6 1Q4 (hiz), 8 1Q5 (hiz), 9 1Q6 (hiz), 11 1Q7 (hiz), 12 1Q8 (hiz), 37 1D8 (in), 38 1D7 (in), 40 1D6 (in), 41 1D5 (in), 43 1D4 (in), 44 1D3 (in), 46 1D2 (in), 47 1D1 (in), 48 1CLK (in)
part B pins: 13 2Q1 (hiz), 14 2Q2 (hiz), 16 2Q3 (hiz), 17 2Q4 (hiz), 19 2Q5 (hiz), 20 2Q6 (hiz), 22 2Q7 (hiz), 23 2Q8 (hiz), 24 2OE (in), 25 2CLK (in), 26 2D8 (in), 27 2D7 (in), 29 2D6 (in), 30 2D5 (in), 32 2D4 (in), 33 2D3 (in), 35 2D2 (in), 36 2D1 (in)
part C pins: 4 GND (power), 7 VCC (power), 10 GND (power), 15 GND (power), 18 VCC (power), 21 GND (power), 28 GND (power), 31 VCC (power), 34 GND (power), 39 GND (power), 42 VCC (power), 45 GND (power)

## SN74LVTH162374DLR
designator U?
3.3-V ABT 16-Bit Edge-Triggered D-Type Flip-Flops With 3-State Outputs, DL0048A, LARGE T&R; Generic Part Number: SN74LVTH162374; Manufacturer: Texas Instruments; PartNumber: SN74LVTH162374DLR; VCC(Min)(V): 2.7; VCC(Max)(V): 3.6; Output Type: TTL; ICC @ Nom Voltage(Max)(mA): 5; Bits(#): 16; F @ Nom Voltage(Max)(Mhz): 160; Rating: Catalog; Technology Family: LVT; Voltage(Nom)(V): 3.3; Schmitt Trigger: No; Output Drive (IOL/IOH)(Max)(mA): 12/-12; Output Logic: Non-inverted; 3-State Output: Yes; tpd @ Nom Voltage(Max)(ns): 5.3; DatasheetVersion: SCBS262M; PackageReference: DL0048A; Supplier 1: Digi-Key; Supplier Part Number 1: 296-14929-2-ND; Supplier 2: Digi-Key; Supplier Part Number 2: 296-14929-1-ND; Supplier 3: Digi-Key; Supplier Part Number 3: 296-14929-6-ND; Supplier 4: Mouser; Supplier Part Number 4: 595-74LVTH162374DLR; Input Type: TTL; Operating Temperature Range(C): -40 to 85; Code_JEDEC: MO-118; ComponentLink1Description: Manufacturer URL; ComponentLink1URL: http://www.ti.com/; ComponentLink2Description: Datasheet; ComponentLink2URL: http://www.ti.com/lit/ds/symlink/sn74lvth162374.pdf; ComponentLink3Description: Package Specification; ComponentLink3URL: http://www.ti.com/lit/ml/mpds490/mpds490.pdf
footprint DL0048A_N (SOP, 48-Leads, Body 7.6x16mm, Pitch 0.635mm, IPC Medium Density)
footprint DL0048A_M (SOP, 48-Leads, Body 7.6x16mm, Pitch 0.635mm, IPC Low Density)
footprint DL0048A_L (SOP, 48-Leads, Body 7.6x16mm, Pitch 0.635mm, IPC High Density)
part A pins: 1 1OE (in), 2 1Q1 (hiz), 3 1Q2 (hiz), 5 1Q3 (hiz), 6 1Q4 (hiz), 8 1Q5 (hiz), 9 1Q6 (hiz), 11 1Q7 (hiz), 12 1Q8 (hiz), 37 1D8 (in), 38 1D7 (in), 40 1D6 (in), 41 1D5 (in), 43 1D4 (in), 44 1D3 (in), 46 1D2 (in), 47 1D1 (in), 48 1CLK (in)
part B pins: 13 2Q1 (hiz), 14 2Q2 (hiz), 16 2Q3 (hiz), 17 2Q4 (hiz), 19 2Q5 (hiz), 20 2Q6 (hiz), 22 2Q7 (hiz), 23 2Q8 (hiz), 24 2OE (in), 25 2CLK (in), 26 2D8 (in), 27 2D7 (in), 29 2D6 (in), 30 2D5 (in), 32 2D4 (in), 33 2D3 (in), 35 2D2 (in), 36 2D1 (in)
part C pins: 4 GND (power), 7 VCC (power), 10 GND (power), 15 GND (power), 18 VCC (power), 21 GND (power), 28 GND (power), 31 VCC (power), 34 GND (power), 39 GND (power), 42 VCC (power), 45 GND (power)

## SN74LVTH322374KR
designator U?
3.3-V ABT 32-Bit Edge-Triggered D-Type Flip-Flop with 3-State Outputs, GKE0096A, LARGE T&R; Generic Part Number: SN74LVTH322374; Manufacturer: Texas Instruments; PartNumber: SN74LVTH322374KR; VCC(Min)(V): 2.7; VCC(Max)(V): 3.6; Output Type: TTL; ICC @ Nom Voltage(Max)(mA): 10; Bits(#): 32; F @ Nom Voltage(Max)(Mhz): 160; Rating: Catalog; Technology Family: LVT; Voltage(Nom)(V): 3.3; Schmitt Trigger: No; Output Drive (IOL/IOH)(Max)(mA): 12/-12; Output Logic: Non-inverted; 3-State Output: Yes; tpd @ Nom Voltage(Max)(ns): 5.3; DatasheetVersion: SCBS754C; PackageReference: GKE0096A; Supplier 1: Digi-Key; Supplier Part Number 1: 296-13299-2-ND; Supplier 2: Digi-Key; Supplier Part Number 2: 296-13299-1-ND; Supplier 3: Mouser; Supplier Part Number 3: 595-SN74LVTH322374KR; Input Type: TTL; Operating Temperature Range(C): -40 to 85; Code_JEDEC: MO-205; ComponentLink1Description: Manufacturer URL; ComponentLink1URL: http://www.ti.com/; ComponentLink2Description: Datasheet; ComponentLink2URL: http://www.ti.com/lit/ds/symlink/sn74lvth322374.pdf; ComponentLink3Description: Package Specification; ComponentLink3URL: http://www.ti.com/lit/ml/mpbg095d/mpbg095d.pdf
footprint GKE0096A (BGA, 96-Balls, Body 13.5x5.5mm, Pitch 0.8mm)
part A pins: A1 1Q2 (hiz), A2 1Q1 (hiz), A3 1OE (in), A4 1CLK (in), A5 1D1 (in), A6 1D2 (in), B1 1Q4 (hiz), B2 1Q3 (hiz), B5 1D3 (in), B6 1D4 (in), C1 1Q6 (hiz), C2 1Q5 (hiz), C5 1D5 (in), C6 1D6 (in), D1 1Q8 (hiz), D2 1Q7 (hiz), D5 1D7 (in), D6 1D8 (in)
part B pins: E1 2Q2 (hiz), E2 2Q1 (hiz), E5 2D1 (in), E6 2D2 (in), F1 2Q4 (hiz), F2 2Q3 (hiz), F5 2D3 (in), F6 2D4 (in), G1 2Q6 (hiz), G2 2Q5 (hiz), G5 2D5 (in), G6 2D6 (in), H1 2Q7 (hiz), H2 2Q8 (hiz), H3 2OE (in), H4 2CLK (in), H5 2D8 (in), H6 2D7 (in)
part C pins: J1 3Q2 (hiz), J2 3Q1 (hiz), J3 3OE (in), J4 3CLK (in), J5 3D1 (in), J6 3D2 (in), K1 3Q4 (hiz), K2 3Q3 (hiz), K5 3D3 (in), K6 3D4 (in), L1 3Q6 (hiz), L2 3Q5 (hiz), L5 3D5 (in), L6 3D6 (in), M1 3Q8 (hiz), M2 3Q7 (hiz), M5 3D7 (in), M6 3D8 (in)
part D pins: N1 4Q2 (hiz), N2 4Q1 (hiz), N5 4D1 (in), N6 4D2 (in), P1 4Q4 (hiz), P2 4Q3 (hiz), P5 4D3 (in), P6 4D4 (in), R1 4Q6 (hiz), R2 4Q5 (hiz), R5 4D5 (in), R6 4D6 (in), T1 4Q7 (hiz), T2 4Q8 (hiz), T3 4OE (in), T4 4CLK (in), T5 4D8 (in), T6 4D7 (in)
part E pins: B3 GND (power), B4 GND (power), C3 VCC (power), C4 VCC (power), D3 GND (power), D4 GND (power), E3 GND (power), E4 GND (power), F3 VCC (power), F4 VCC (power), G3 GND (power), G4 GND (power), K3 GND (power), K4 GND (power), L3 VCC (power), L4 VCC (power), M3 GND (power), M4 GND (power), N3 GND (power), N4 GND (power), P3 VCC (power), P4 VCC (power), R3 GND (power), R4 GND (power)

## SN74S74D
designator U?
Dual D-Type Positive-Edge-Triggered Flip-Flops With Preset And Clear, D0014A, TUBE; Generic Part Number: SN74S74; Manufacturer: Texas Instruments; PartNumber: SN74S74D; VCC(Min)(V): 4.75; VCC(Max)(V): 5.25; Output Type: TTL; Output: 3S; ICC @ Nom Voltage(Max)(mA): 25; Bits(#): 2; F @ Nom Voltage(Max)(Mhz): 50; Rating: Catalog; Technology Family: S; Voltage(Nom)(V): 5; Schmitt Trigger: No; Output Drive (IOL/IOH)(Max)(mA): 20/-1; Output Logic: Inverted,Non-inverted; tpd @ Nom Voltage(Max)(ns): 9; DatasheetVersion: SDLS119; PackageReference: D0014A; Supplier 1: Digi-Key; Supplier Part Number 1: 296-34115-5-ND; Supplier 2: Farnell; Supplier Part Number 2: 1750068; Supplier 3: Mouser; Supplier Part Number 3: 595-SN74S74D; Input Type: TTL; Operating Temperature Range(C): 0 to 70; 3-State Output: No; Code_JEDEC: MS-012; ComponentLink1Description: Manufacturer URL; ComponentLink1URL: http://www.ti.com/; ComponentLink2Description: Datasheet; ComponentLink2URL: http://www.ti.com/lit/ds/symlink/sn74s74.pdf; ComponentLink3Description: Package Specification; ComponentLink3URL: http://www.ti.com/lit/ml/mpds177g/mpds177g.pdf
footprint D0014A_N (SOIC, 14-Leads, Body 8.75x4mm, Pitch 1.27mm, IPC Medium Density)
footprint D0014A_M (SOIC, 14-Leads, Body 8.75x4mm, Pitch 1.27mm, IPC Low Density)
footprint D0014A_L (SOIC, 14-Leads, Body 8.75x4mm, Pitch 1.27mm, IPC High Density)
part A pins: 1 1~{CLR} (in), 2 1D (in), 3 1CLK (in), 4 1~{PRE} (in), 5 1Q (out), 6 1Q (out)
part B pins: 8 2Q (out), 9 2Q (out), 10 2~{PRE} (in), 11 2CLK (in), 12 2D (in), 13 2~{CLR} (in)
part C pins: 7 GND (power), 14 VCC (power)
part A text: PRE; CLR
part B text: PRE; CLR

## SN74S74N
designator U?
Dual D-Type Positive-Edge-Triggered Flip-Flops With Preset And Clear, N0014A, TUBE; Generic Part Number: SN74S74; Manufacturer: Texas Instruments; PartNumber: SN74S74N; VCC(Min)(V): 4.75; VCC(Max)(V): 5.25; Output Type: TTL; Output: 3S; ICC @ Nom Voltage(Max)(mA): 25; Bits(#): 2; F @ Nom Voltage(Max)(Mhz): 50; Rating: Catalog; Technology Family: S; Voltage(Nom)(V): 5; Schmitt Trigger: No; Output Drive (IOL/IOH)(Max)(mA): 20/-1; Output Logic: Inverted,Non-inverted; tpd @ Nom Voltage(Max)(ns): 9; DatasheetVersion: SDLS119; PackageReference: N0014A; Supplier 1: Digi-Key; Supplier Part Number 1: 296-1734-5-ND; Supplier 2: Newark; Supplier Part Number 2: 67K1122; Supplier 3: Mouser; Supplier Part Number 3: 595-SN74S74N; Input Type: TTL; Operating Temperature Range(C): 0 to 70; 3-State Output: No; Code_JEDEC: MS-001; ComponentLink1Description: Manufacturer URL; ComponentLink1URL: http://www.ti.com/; ComponentLink2Description: Datasheet; ComponentLink2URL: http://www.ti.com/lit/ds/symlink/sn74s74.pdf; ComponentLink3Description: Package Specification; ComponentLink3URL: http://www.ti.com/lit/ml/mpdi002c/mpdi002c.pdf
footprint N0014A (DIP, 14-Leads, Body 19.7x6.6mm, Pitch 2.54mm)
part A pins: 1 1~{CLR} (in), 2 1D (in), 3 1CLK (in), 4 1~{PRE} (in), 5 1Q (out), 6 1Q (out)
part B pins: 8 2Q (out), 9 2Q (out), 10 2~{PRE} (in), 11 2CLK (in), 12 2D (in), 13 2~{CLR} (in)
part C pins: 7 GND (power), 14 VCC (power)
part A text: PRE; CLR
part B text: PRE; CLR

## SN74S74NSR
designator U?
Dual D-Type Positive-Edge-Triggered Flip-Flops With Preset And Clear, NS0014A, LARGE T&R; Generic Part Number: SN74S74; Manufacturer: Texas Instruments; PartNumber: SN74S74NSR; VCC(Min)(V): 4.75; VCC(Max)(V): 5.25; Output Type: TTL; Output: 3S; ICC @ Nom Voltage(Max)(mA): 25; Bits(#): 2; F @ Nom Voltage(Max)(Mhz): 50; Rating: Catalog; Technology Family: S; Voltage(Nom)(V): 5; Schmitt Trigger: No; Output Drive (IOL/IOH)(Max)(mA): 20/-1; Output Logic: Inverted,Non-inverted; tpd @ Nom Voltage(Max)(ns): 9; DatasheetVersion: SDLS119; PackageReference: NS0014A; Supplier 1: Digi-Key; Supplier Part Number 1: SN74S74NSR-ND; Supplier 2: Mouser; Supplier Part Number 2: 595-SN74S74NSR; Input Type: TTL; Operating Temperature Range(C): 0 to 70; 3-State Output: No; ComponentLink1Description: Manufacturer URL; ComponentLink1URL: http://www.ti.com/; ComponentLink2Description: Datasheet; ComponentLink2URL: http://www.ti.com/lit/ds/symlink/sn74s74.pdf; ComponentLink3Description: Package Specification; ComponentLink3URL: http://www.ti.com/lit/ml/msop002a/msop002a.pdf
footprint NS0014A_N (SOIC,14-Leads,Body 10.5x5.6mm,Pitch 1.27mm,IPC Medium Density)
footprint NS0014A_M (SOIC,14-Leads,Body 10.5x5.6mm,Pitch 1.27mm,IPC Low Density)
footprint NS0014A_L (SOIC,14-Leads,Body 10.5x5.6mm,Pitch 0.4mm,IPC High Density)
part A pins: 1 1~{CLR} (in), 2 1D (in), 3 1CLK (in), 4 1~{PRE} (in), 5 1Q (out), 6 1Q (out)
part B pins: 8 2Q (out), 9 2Q (out), 10 2~{PRE} (in), 11 2CLK (in), 12 2D (in), 13 2~{CLR} (in)
part C pins: 7 GND (power), 14 VCC (power)
part A text: PRE; CLR
part B text: PRE; CLR

## SN74S175D
designator U?
Quadruple D-Type Flip-Flops With Clear, D0016A, TUBE; Generic Part Number: SN74S175; Manufacturer: Texas Instruments; PartNumber: SN74S175D; VCC(Min)(V): 4.75; VCC(Max)(V): 5.25; Output Type: TTL; Output: 2S; ICC @ Nom Voltage(Max)(mA): 96; Bits(#): 4; F @ Nom Voltage(Max)(Mhz): 50; Rating: Catalog; Technology Family: S; Voltage(Nom)(V): 5; Schmitt Trigger: No; Output Drive (IOL/IOH)(Max)(mA): 20/-1; Output Logic: Inverted,Non-inverted; tpd @ Nom Voltage(Max)(ns): 17; DatasheetVersion: SDLS068A; PackageReference: D0016A; Supplier 1: Digi-Key; Supplier Part Number 1: SN74S175D-ND; Supplier 2: Farnell; Supplier Part Number 2: 1750062; Supplier 3: Mouser; Supplier Part Number 3: 595-SN74S175D; Input Type: TTL; Operating Temperature Range(C): 0 to 70; 3-State Output: No; Code_JEDEC: MS-012 variation AC; ComponentLink1Description: Manufacturer URL; ComponentLink1URL: http://www.ti.com/; ComponentLink2Description: Datasheet; ComponentLink2URL: http://www.ti.com/lit/ds/symlink/sn74s175.pdf; ComponentLink3Description: Package Specification; ComponentLink3URL: http://www.ti.com/lit/ml/mpds178g/mpds178g.pdf
footprint D0016A_N (SOIC, 16-Leads, Body 10x4mm, Pitch 1.27mm, IPC Medium Density)
footprint D0016A_M (SOIC, 16-Leads, Body 10x4mm, Pitch 1.27mm, IPC Low Density)
footprint D0016A_L (SOIC, 16-Leads, Body 10x4mm, Pitch 1.27mm, IPC High Density)
part A pins: 1 CLR (in), 2 1Q (out), 3 1Q (out), 4 1D (in), 5 2D (in), 6 2Q (out), 7 2Q (out), 9 CLK (in), 10 3Q (out), 11 3Q (out), 12 3D (in), 13 4D (in), 14 4Q (out), 15 4Q (out)
part B pins: 8 GND (power), 16 VCC (power)

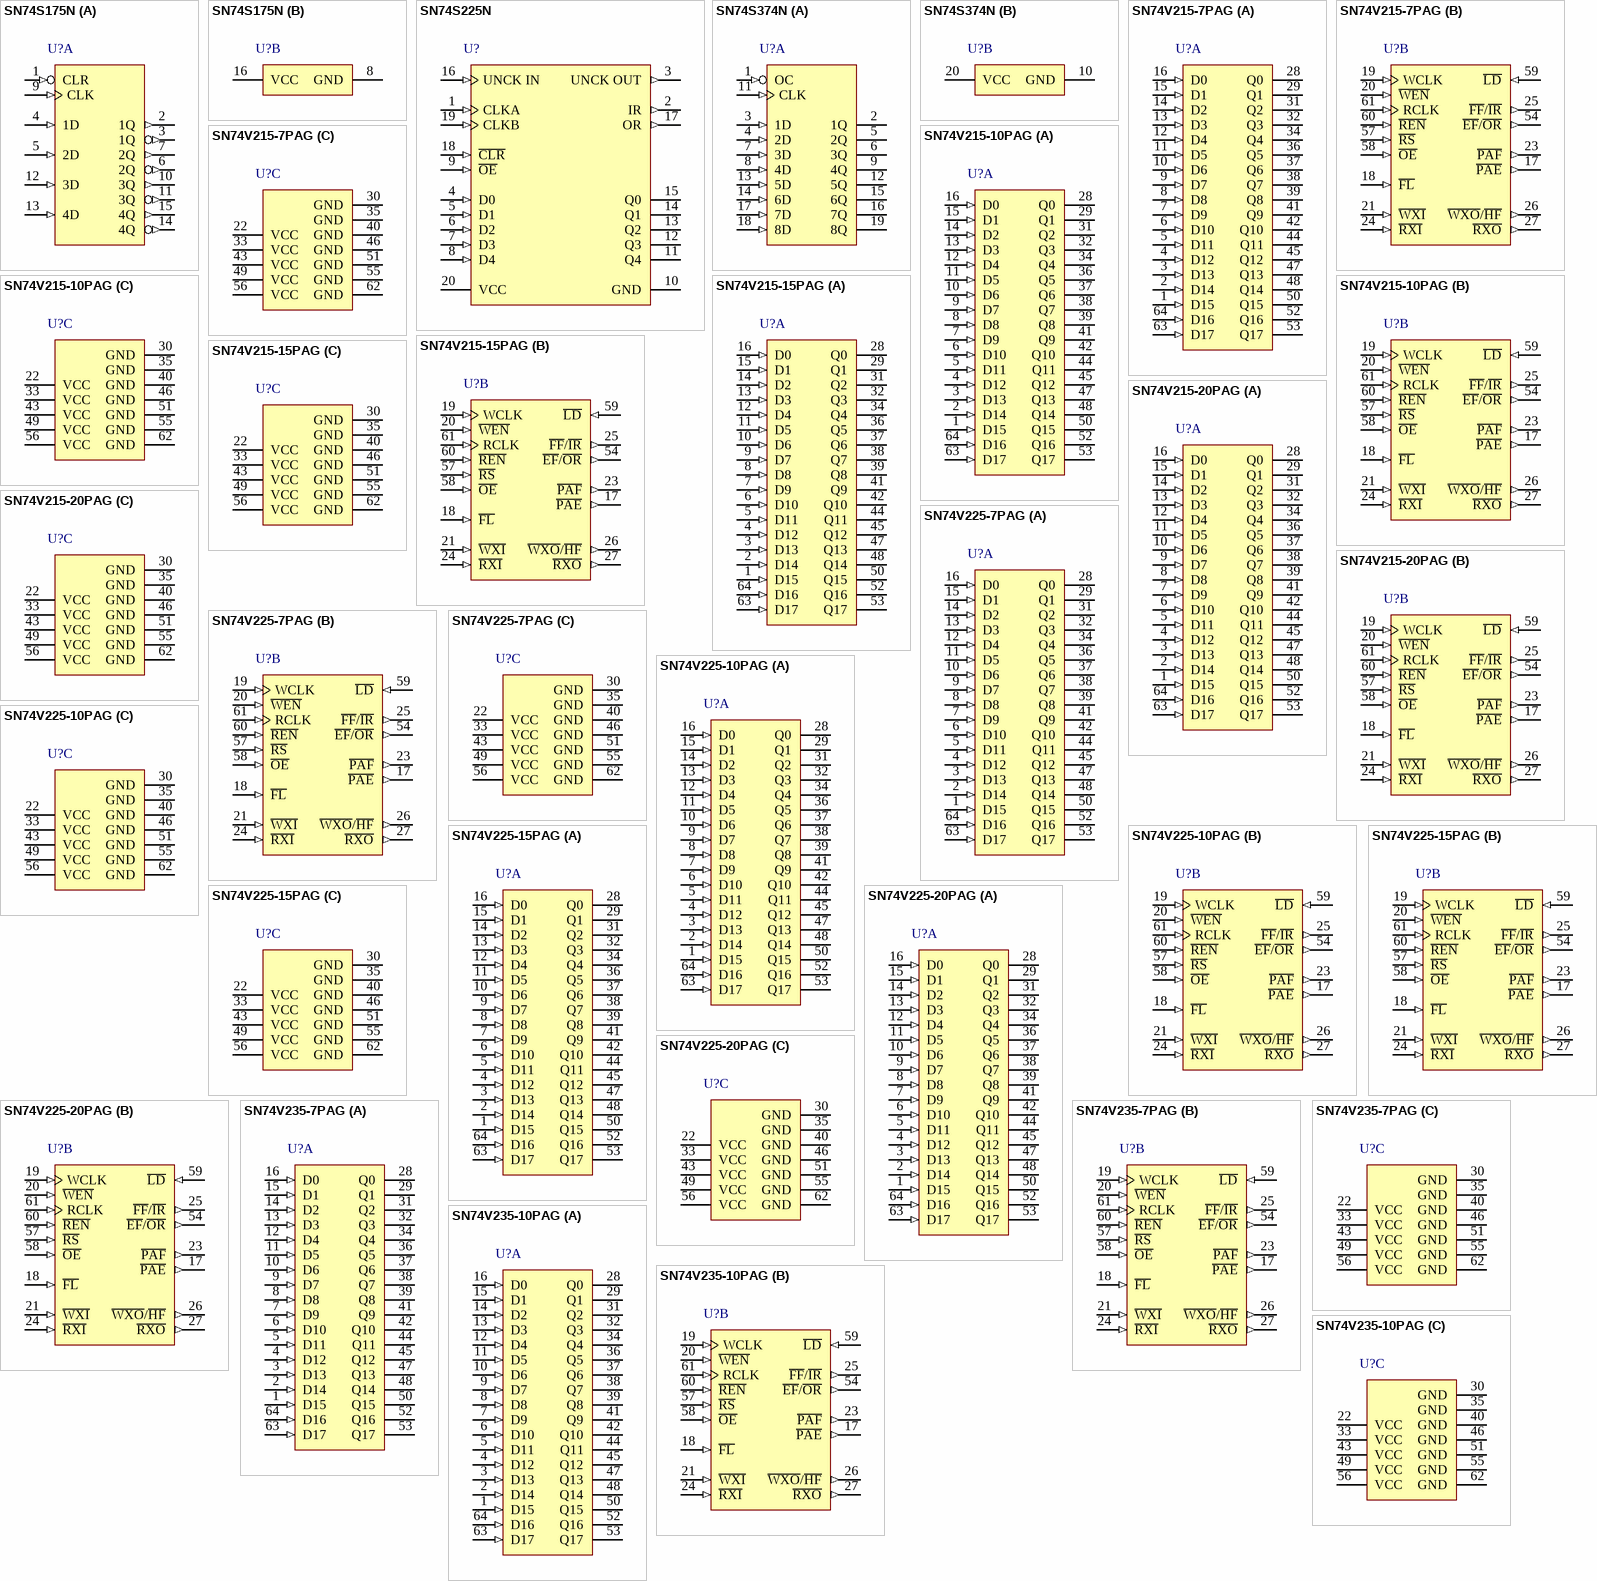
[diagram p114: symbols SN74S175N to SN74V235-10PAG]

## SN74S175N
designator U?
Quadruple D-Type Flip-Flops With Clear, N0016A, TUBE; Generic Part Number: SN74S175; Manufacturer: Texas Instruments; PartNumber: SN74S175N; VCC(Min)(V): 4.75; VCC(Max)(V): 5.25; Output Type: TTL; Output: 2S; ICC @ Nom Voltage(Max)(mA): 96; Bits(#): 4; F @ Nom Voltage(Max)(Mhz): 50; Rating: Catalog; Technology Family: S; Voltage(Nom)(V): 5; Schmitt Trigger: No; Output Drive (IOL/IOH)(Max)(mA): 20/-1; Output Logic: Inverted,Non-inverted; tpd @ Nom Voltage(Max)(ns): 17; DatasheetVersion: SDLS068A; PackageReference: N0016A; Supplier 1: Digi-Key; Supplier Part Number 1: 296-3864-5-ND; Supplier 2: Newark; Supplier Part Number 2: 67K1113; Supplier 3: Mouser; Supplier Part Number 3: 595-SN74S175N; Input Type: TTL; Operating Temperature Range(C): 0 to 70; 3-State Output: No; Code_JEDEC: MS-001; ComponentLink1Description: Manufacturer URL; ComponentLink1URL: http://www.ti.com/; ComponentLink2Description: Datasheet; ComponentLink2URL: http://www.ti.com/lit/ds/symlink/sn74s175.pdf; ComponentLink3Description: Package Specification; ComponentLink3URL: http://www.ti.com/lit/ml/mpdi002c/mpdi002c.pdf
footprint N0016A (DIP, 16-Leads, Body 19.7x6.6mm, Pitch 2.54mm)
part A pins: 1 CLR (in), 2 1Q (out), 3 1Q (out), 4 1D (in), 5 2D (in), 6 2Q (out), 7 2Q (out), 9 CLK (in), 10 3Q (out), 11 3Q (out), 12 3D (in), 13 4D (in), 14 4Q (out), 15 4Q (out)
part B pins: 8 GND (power), 16 VCC (power)

## SN74S225N
designator U?
16 x 5 asynchronous FIFO memory, N0020A, TUBE; Generic Part Number: SN74S225; Manufacturer: Texas Instruments; PartNumber: SN74S225N; Vcc range(V): 4.75 to 5.25; Fmax(MHz): 10; Voltage Nodes(V): 5; Sync/Async: A; Rating: Catalog; Output Drive(mA): -0.40625; Flags Empty: YES; DatasheetVersion: SDLS207B; PackageReference: N0020A; Depth: 16; Width: 5; Operating Temperature Range(C): 0 to 70; Flags Full: YES; Flags Half: YES; Code_JEDEC: MS-001; ComponentLink1Description: Manufacturer URL; ComponentLink1URL: http://www.ti.com/; ComponentLink2Description: Datasheet; ComponentLink2URL: http://www.ti.com/lit/ds/symlink/sn74s225.pdf; ComponentLink3Description: Package Specification; ComponentLink3URL: http://www.ti.com/lit/ml/mpdi002c/mpdi002c.pdf
footprint N0020A (DIP, 20-Leads, Body 26.9x6.6mm, Pitch 2.54mm)
pins: 1 CLKA (in), 2 IR (out), 3 UNCK OUT (out), 4 D0 (in), 5 D1 (in), 6 D2 (in), 7 D3 (in), 8 D4 (in), 9 ~{OE} (in), 10 GND (power), 11 Q4 (hiz), 12 Q3 (hiz), 13 Q2 (hiz), 14 Q1 (hiz), 15 Q0 (hiz), 16 UNCK IN (in), 17 OR (out), 18 ~{CLR} (in), 19 CLKB (in), 20 VCC (power)

## SN74S374N
designator U?
Octal D-Type Positive Edge Triggered Flip-Flops with 3-State Outputs, N0020A, TUBE; Generic Part Number: SN74S374; Manufacturer: Texas Instruments; PartNumber: SN74S374N; VCC(Min)(V): 4.75; VCC(Max)(V): 5.25; Output Type: TTL; ICC @ Nom Voltage(Max)(mA): 0.18; Bits(#): 8; F @ Nom Voltage(Max)(Mhz): 50; Rating: Catalog; Technology Family: S; Voltage(Nom)(V): 5; Schmitt Trigger: No; Output Drive (IOL/IOH)(Max)(mA): 20/-6.5; Output Logic: Non-inverted; 3-State Output: Yes; tpd @ Nom Voltage(Max)(ns): 17; DatasheetVersion: SDLS165B; PackageReference: N0020A; Supplier 1: Digi-Key; Supplier Part Number 1: 296-3870-5-ND; Supplier 2: Farnell; Supplier Part Number 2: 1749855; Supplier 3: Newark; Supplier Part Number 3: 45Y7767; Supplier 4: Mouser; Supplier Part Number 4: 595-SN74S374N; Input Type: TTL; Operating Temperature Range(C): 0 to 70; Code_JEDEC: MS-001; ComponentLink1Description: Manufacturer URL; ComponentLink1URL: http://www.ti.com/; ComponentLink2Description: Datasheet; ComponentLink2URL: http://www.ti.com/lit/ds/symlink/sn74s374.pdf; ComponentLink3Description: Package Specification; ComponentLink3URL: http://www.ti.com/lit/ml/mpdi002c/mpdi002c.pdf
footprint N0020A (DIP, 20-Leads, Body 26.9x6.6mm, Pitch 2.54mm)
part A pins: 1 OC (in), 2 1Q (hiz), 3 1D (in), 4 2D (in), 5 2Q (hiz), 6 3Q (hiz), 7 3D (in), 8 4D (in), 9 4Q (hiz), 11 CLK (in), 12 5Q (hiz), 13 5D (in), 14 6D (in), 15 6Q (hiz), 16 7Q (hiz), 17 7D (in), 18 8D (in), 19 8Q (hiz)
part B pins: 10 GND (power), 20 VCC (power)

## SN74V215-7PAG
designator U?
512 x 18 Synchronous FIFO Memory, PAG0064A, JEDEC TRAY (10+1); Generic Part Number: SN74V215; Manufacturer: Texas Instruments; PartNumber: SN74V215-7PAG; Vcc range(V): 3.0 to 3.6; Fmax(MHz): 133; Voltage Nodes(V): 3.3; Sync/Async: S; Rating: Catalog; Output Drive(mA): -0.25; DatasheetVersion: SCAS636E; PackageReference: PAG0064A; Depth: 512; Width: 18; Operating Temperature Range(C): 0 to 70; Code_JEDEC: MS-026; ComponentLink1Description: Manufacturer URL; ComponentLink1URL: http://www.ti.com/; ComponentLink2Description: Datasheet; ComponentLink2URL: http://www.ti.com/lit/ds/symlink/sn74v215.pdf; ComponentLink3Description: Package Specification; ComponentLink3URL: http://www.ti.com/lit/ml/mtqf006a/mtqf006a.pdf
footprint PAG0064A_N (QFP, 64-Leads, Body 10x10mm, Pitch 0.5mm, IPC Medium Density)
footprint PAG0064A_M (QFP, 64-Leads, Body 10x10mm, Pitch 0.5mm, IPC Low Density)
footprint PAG0064A_L (QFP, 64-Leads, Body 10x10mm, Pitch 0.5mm, IPC High Density)
part A pins: 1 D15 (in) "Data inputs. Data inputs for an 18-bit bus.", 2 D14 (in) "Data inputs. Data inputs for an 18-bit bus.", 3 D13 (in) "Data inputs. Data inputs for an 18-bit bus.", 4 D12 (in) "Data inputs. Data inputs for an 18-bit bus.", 5 D11 (in) "Data inputs. Data inputs for an 18-bit bus.", 6 D10 (in) "Data inputs. Data inputs for an 18-bit bus.", 7 D9 (in) "Data inputs. Data inputs for an 18-bit bus.", 8 D8 (in) "Data inputs. Data inputs for an 18-bit bus.", 9 D7 (in) "Data inputs. Data inputs for an 18-bit bus.", 10 D6 (in) "Data inputs. Data inputs for an 18-bit bus.", 11 D5 (in) "Data inputs. Data inputs for an 18-bit bus.", 12 D4 (in) "Data inputs. Data inputs for an 18-bit bus.", 13 D3 (in) "Data inputs. Data inputs for an 18-bit bus.", 14 D2 (in) "Data inputs. Data inputs for an 18-bit bus.", 15 D1 (in) "Data inputs. Data inputs for an 18-bit bus.", 16 D0 (in) "Data inputs. Data inputs for an 18-bit bus.", 28 Q0 (hiz) "Data outputs. Data outputs for an 18-bit bus.", 29 Q1 (hiz) "Data outputs. Data outputs for an 18-bit bus.", 31 Q2 (hiz) "Data outputs. Data outputs for an 18-bit bus.", 32 Q3 (hiz) "Data outputs. Data outputs for an 18-bit bus.", 34 Q4 (hiz) "Data outputs. Data outputs for an 18-bit bus.", 36 Q5 (hiz) "Data outputs. Data outputs for an 18-bit bus.", 37 Q6 (hiz) "Data outputs. Data outputs for an 18-bit bus.", 38 Q7 (hiz) "Data outputs. Data outputs for an 18-bit bus.", 39 Q8 (hiz) "Data outputs. Data outputs for an 18-bit bus.", 41 Q9 (hiz) "Data outputs. Data outputs for an 18-bit bus.", 42 Q10 (hiz) "Data outputs. Data outputs for an 18-bit bus.", 44 Q11 (hiz) "Data outputs. Data outputs for an 18-bit bus.", 45 Q12 (hiz) "Data outputs. Data outputs for an 18-bit bus.", 47 Q13 (hiz) "Data outputs. Data outputs for an 18-bit bus.", 48 Q14 (hiz) "Data outputs. Data outputs for an 18-bit bus.", 50 Q15 (hiz) "Data outputs. Data outputs for an 18-bit bus.", 52 Q16 (hiz) "Data outputs. Data outputs for an 18-bit bus.", 53 Q17 (hiz) "Data outputs. Data outputs for an 18-bit bus.", 63 D17 (in) "Data inputs. Data inputs for an 18-bit bus.", 64 D16 (in) "Data inputs. Data inputs for an 18-bit bus."
part B pins: 17 ~{PAE} (out) "Programable almost-empty flag. When P\A\E\ is low, the FIFO is almost empty, based on the offset programmed into the FIFO. The default offset at reset is 63 from empty for SN74V215, and 127 from empty for SN74V225, SN74V235, (See Datasheet)", 18 ~{FL} (in) "Mode selection. In the single-device or width-expansion configuration, F\L\, together with W\X\I\ and R\X\I\, determines if the mode is standard mode or first-word fall-through (FWFT) mode, as well as whether the (See Datasheet)", 19 WCLK (in) "Write clock. When W\E\N\ is low, data is written into the FIFO on a low-to-high transition of WCLK if the FIFO is not full.", 20 ~{WEN} (in) "Write enable. When W\E\N\ is low, data is written into the FIFO on every low-to-high transition of WCLK. When W\E\N\ is high, the FIFO holds the previous data. Data is not written into the FIFO if F\F\ is low.", 21 ~{WXI} (in) "Width expansion. In the single-device or width-expansion configuration, W\X\I\, together with F\L\ and R\X\I\, determines if the mode is standard mode or FWFT mode, as well as whether the P\A\E\/P\A\F\ flags are synchronous (See Datasheet)", 23 ~{PAF} (out) "Programable almost-full flag. When P\A\F\ is low, the FIFO is almost full, based on the offset programmed into the FIFO. The default offset at reset is 63 from full for SN74V215, and 127 from full for SN74V225, SN74V235, and (See Datasheet)", 24 ~{RXI} (in) "Read expansion. In the single-device or width-expansion configuration, R\X\I\, together with F\L\ and W\X\I\, determines if the mode is standard mode or FWFT mode, as well as whether the P\A\E\/P\A\F\ flags are synchronous (See Datasheet)", 25 ~{FF}/~{IR} (out) "Memory-full/space-available flag. In the standard mode, the F\F\ function is selected. F\F\ indicates whether the FIFO memory is full. In the FWFT mode, the I\R\ function is selected. I\R\ indicates whether there is space (See Datasheet)", 26 ~{WXO}/~{HF} (out) "Half-full flag. In the single-device or width-expansion configuration, the device is more than half full when H\F\ is low. In the depth-expansion configuration, a pulse is sent from W\X\O\ to W\X\I\ of the next device when (See Datasheet)", 27 ~{RXO} (out) "Last-location-read flag. In the depth-expansion configuration, a pulse is sent from R\X\O\ to R\X\I\ of the next device when the last location in the FIFO is read.", 54 ~{EF}/~{OR} (out) "Memory-empty/valid-data-available flag. In the standard mode, the E\F\ function is selected. E\F\ indicates whether the FIFO memory is empty. In FWFT mode, the O\R\ function is selected. O\R\ indicates whether there is valid (See Datasheet)", 57 ~{RS} (in) "Reset. When R\S\ is set low, internal read and write pointers are set to the first location of the RAM array, F\F\ and P\A\F\ go high, and P\A\E\ and E\F\ go low. A reset is required before an initial write after power up", 58 ~{OE} (in) "Output enable. When O\E\ is low, the data output bus is active. If O\E\ is high, the output data bus is in the high-impedance state.", 59 ~{LD} (in) "Read/write control. When L\D\ is low, data on the inputs D0-D11 is written to the offset and depth registers on the low-to-high transition of the WCLK, when W\E\N\ is low. When L\D\ is low, data on the outputs Q0-Q11 is read (See Datasheet)", 60 ~{REN} (in) "Read enable. When R\E\N\ is low, data is read from the FIFO on every low-to-high transition of RCLK. When R\E\N\ is high, the output register holds the previous data. Data is not read from the FIFO if E\F\ is low.", 61 RCLK (in) "Read clock. When R\E\N\ is low, data is read from the FIFO on a low-to-high transition of RCLK, if the FIFO is not empty"
part C pins: 22 VCC (power) "Supply voltage. +3.3-V power-supply pins.", 30 GND (power) "Ground", 33 VCC (power) "Supply voltage. +3.3-V power-supply pins.", 35 GND (power) "Ground", 40 GND (power) "Ground", 43 VCC (power) "Supply voltage. +3.3-V power-supply pins.", 46 GND (power) "Ground", 49 VCC (power) "Supply voltage. +3.3-V power-supply pins.", 51 GND (power) "Ground", 55 GND (power) "Ground", 56 VCC (power) "Supply voltage. +3.3-V power-supply pins.", 62 GND (power) "Ground"